# Altium footprint library 2.4.PcbLib: 19 footprints (part 1 of 2)
Each footprint in its own frame and in the unit in brackets; x right, y up, seen from the top. Pads: shape width x height; smd on the part's side, far side on the other; paste and mask are expansions set on the pad; w line width, h text height; cw(c..) or ccw(c..) is an arc to the next point about the centre after c.
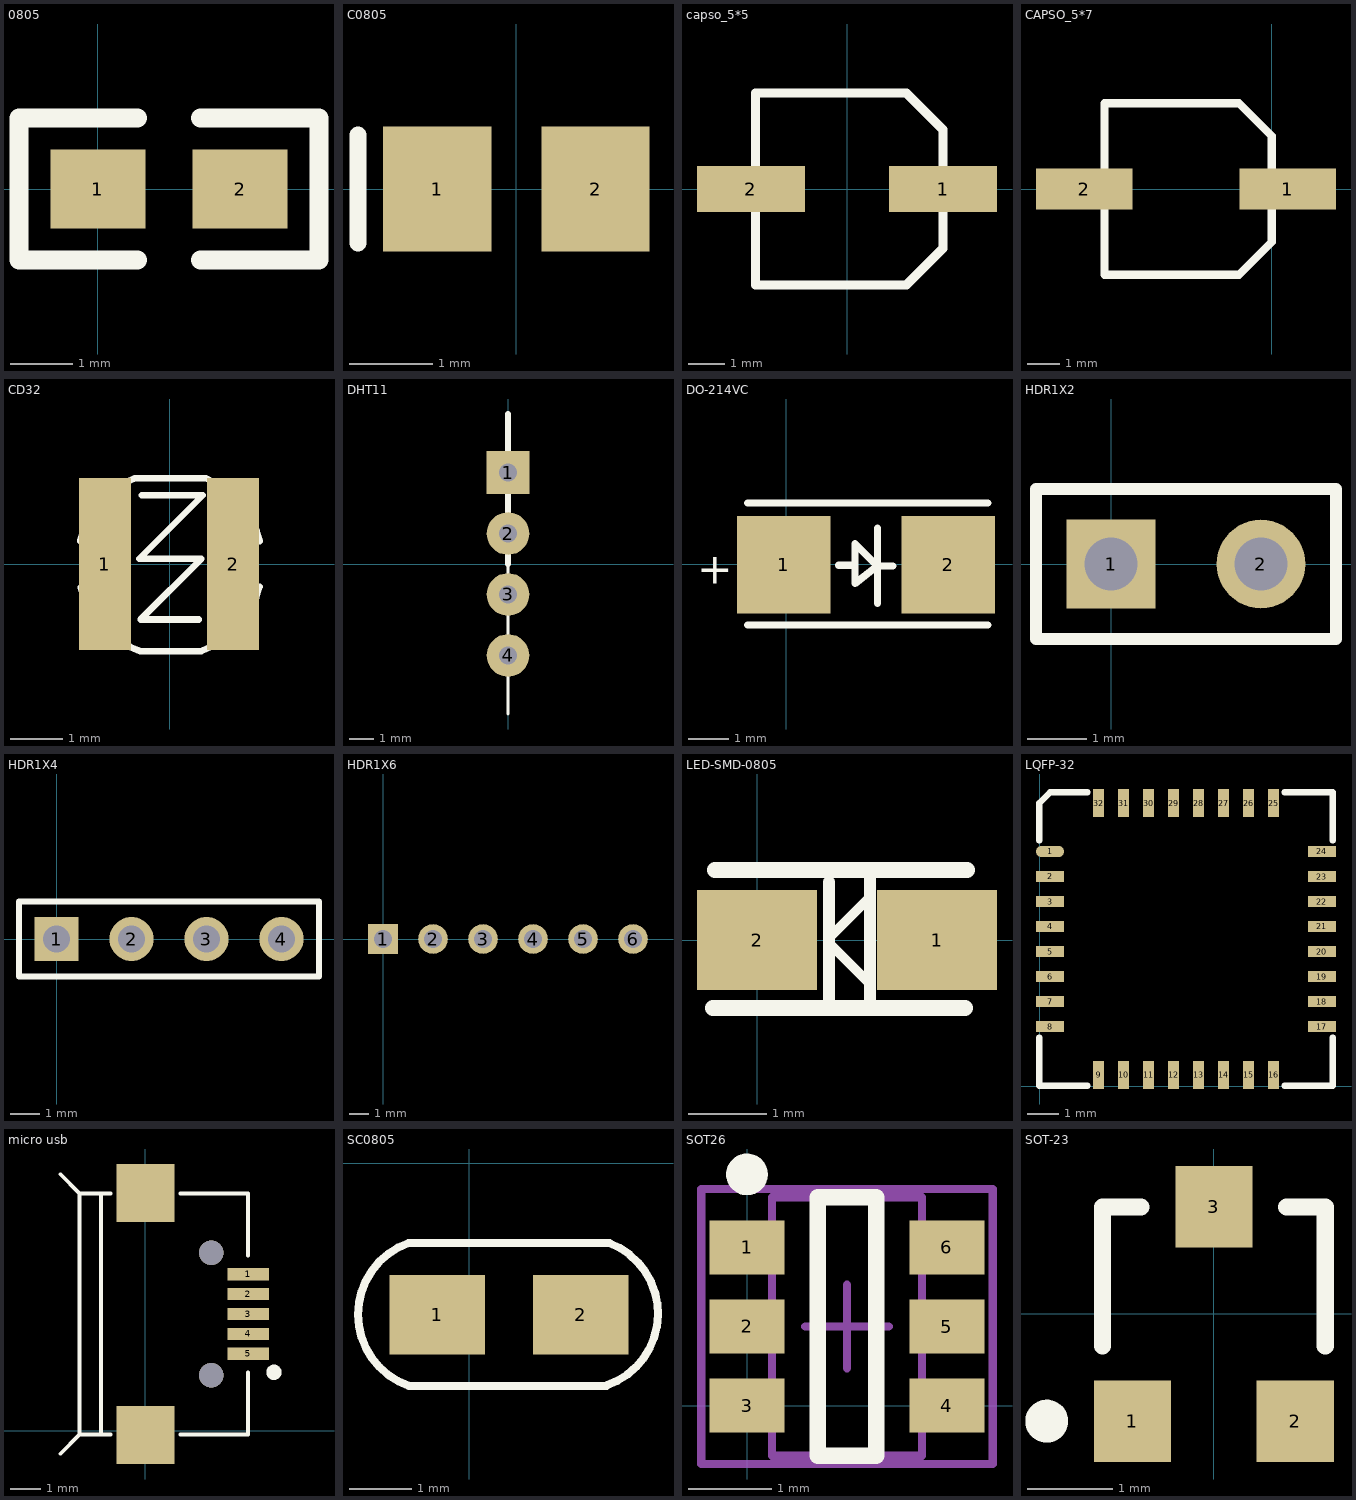
[diagram p0: the footprints below, top view; thin cyan lines are the x and y axes]

## 0805 [mil]
height 501.97
pads (2):
  rect 60x50 smd: 1(0,0) 2(90,0)
Top Overlay:
  lines w12: 25,-45 -50,-45 -50,45 25,45 ; 65,-45 140,-45 140,45 65,45

## C0805 [mm] "Chip Capacitor; Body 2.0 x 1.2 mm (LxW typ)"
height 1.1
pads (2):
  rect 1.3x1.5 smd: 1(-0.95,0) 2(0.95,0)
Top Overlay:
  lines w0.2: -1.9,-0.65 -1.9,0.65

## capso_5*5 [mm]
pads (2):
  rect 3x1.274 smd: 1(2.667,0) 2(-2.667,0)
Top Overlay:
  lines w0.254: -2.54,-2.667 1.651,-2.667 2.667,-1.651 2.667,1.651 1.651,2.667 -2.54,2.667 -2.54,-2.667
3D body: height 5.41, standoff 0, extent -2.874,-2.566 3.026,2.734

## CAPSO_5*7 [mm]
pads (2):
  rect 3x1.274 smd: 1(0.5,0) 2(-5.834,0)
Top Overlay:
  lines w0.254: -5.207,-2.667 -5.207,2.667 -1.016,2.667 0,1.651 0,-1.651 -1.016,-2.667 -5.207,-2.667
3D body: height 5.41, standoff 0, extent -5.541,-2.667 0.359,2.633

## CD32 [mm]
pads (2):
  rect 1x3.3 smd: 1(-1.245,0) 2(1.219,0)
Top Overlay:
  lines w0.127: -1.72,0.438 cw(c-1.727,0) -1.646,-0.431 ; -1.72,0.451 cw(c0,0) -0.66,1.651 0.686,1.651 cw(c0,0) 1.732,0.442 ; -1.708,-0.447 ccw(c0,0) -0.558,-1.675 ; -0.559,-1.676 0.609,-1.676 ; -0.533,1.321 0.635,1.321 -0.584,0.102 0.61,0.102 -0.559,-1.067 0.559,-1.067 ; 0.609,-1.674 ccw(c0,0) 1.726,-0.44 cw(c1.775,0) 1.726,0.44

## DHT11 [mil]
pads (4):
  rect 70x70 hole 30: 1(0,150)
  round 70 hole 30: 2(0,50) 3(0,-50) 4(0,-150)
Top Overlay:
  lines w5: 0,-246.06 0,0
  lines w10: 0,0 0,246.06

## DO-214VC [mm] "DO-214VC -SS14; Body 5.1 x 2.7mm (LxW typ)"
height 12.75
pads (2):
  rect 2.3x2.4 smd: 1(-0.054,-0.023) 2(3.996,-0.023)
Top Overlay:
  lines w0.178: -0.949,-1.499 4.971,-1.499 ; -0.949,1.501 4.971,1.501 ; 1.3,-0.029 1.7,-0.029 ; 2.25,-0.969 2.25,-0.049 ; 2.25,0.881 2.25,-0.049 ; 2.63,-0.049 2.25,-0.049 ; 2.25,-0.049 1.7,0.501 1.7,-0.479 2.25,-0.049
  text "+" at -2.192,-0.484 h0.76

## HDR1X2 [mm] "Connector; Header; 2 Position"
height 1.75
pads (2):
  rect 1.5x1.5 hole 0.9: 1(0,0)
  round 1.5 hole 0.9: 2(2.54,0)
Top Overlay:
  lines w0.2: -1.27,-1.27 -1.27,1.27 3.81,1.27 3.81,-1.27 -1.27,-1.27

## HDR1X4 [mm] "Connector; Header; 4 Position"
pads (4):
  rect 1.5x1.5 hole 0.9: 1(0,0)
  round 1.5 hole 0.9: 2(2.54,0) 3(5.08,0) 4(7.62,0)
Top Overlay:
  lines w0.2: -1.27,-1.27 -1.27,1.27 8.89,1.27 8.89,-1.27 -1.27,-1.27

## HDR1X6 [mm] "Connector; Header; 6 Position"
height 1.75
pads (6):
  rect 1.5x1.5 hole 0.9: 1(0,0)
  round 1.5 hole 0.9: 2(2.54,0) 3(5.08,0) 4(7.62,0) 5(10.16,0) 6(12.7,0)
Bottom Overlay:
  lines w0.2: -1.27,-1.27 -1.27,1.27 13.97,1.27 13.97,-1.27 -1.27,-1.27

## LED-SMD-0805 [mil]
height 68.9
pads (2):
  rect 60x50 smd: 1(90,0) 2(0,0)
Top Overlay:
  lines w5: 56.5,-22 36,-1.5 36,1 56.5,21.5 56.5,30.37 56.5,23.5
  lines w6: 36,-34 36,28.99 ; 56.5,-32.62 56.5,30.37
  lines w7.87: -21.98,-34 104,-34 ; -20.98,35 105,35

## LQFP-32 [mm]
height 1.75
pads (32):
  oval 0.9x0.35 smd: 1(0.33,7.518)
  rect 0.9x0.35 smd: 2(0.33,6.718) 3(0.33,5.918) 4(0.33,5.118) 5(0.33,4.318) 6(0.33,3.518) 7(0.33,2.718) 8(0.33,1.918) 17(9.03,1.918) 18(9.03,2.718) 19(9.03,3.518) 20(9.03,4.318) 21(9.03,5.118) 22(9.03,5.918) 23(9.03,6.718) 24(9.03,7.518)
  rect 0.35x0.9 smd: 9(1.88,0.368) 10(2.68,0.368) 11(3.48,0.368) 12(4.28,0.368) 13(5.08,0.368) 14(5.88,0.368) 15(6.68,0.368) 16(7.48,0.368) 25(7.48,9.068) 26(6.68,9.068) 27(5.88,9.068) 28(5.08,9.068) 29(4.28,9.068) 30(3.48,9.068) 31(2.68,9.068) 32(1.88,9.068)
Top Overlay:
  lines w0.2: -0.02,1.568 -0.02,0.018 1.53,0.018 ; -0.02,7.868 -0.02,9.068 0.33,9.418 1.53,9.418 ; 7.83,0.018 9.38,0.018 9.38,1.568 ; 7.83,9.418 9.38,9.418 9.38,7.868

## micro usb [mm]
height 1.75
pads (7):
  rect 1.35x0.4 smd: 1(3.355,5.11) 2(3.355,4.46) 3(3.355,3.81) 4(3.355,3.16) 5(3.355,2.51)
  rect 1.9x1.9 smd: ""(-0.003,-0.14) ""(-0.003,7.76)
via 2.147,1.81 diameter 0.8 hole 0.8
via 2.147,5.81 diameter 0.8 hole 0.8
Top Overlay:
  circle w0.25: c4.195,1.905 r0.125
  lines w0.127: -2.783,-0.757 -2.153,-0.127 -1.137,-0.127 ; -2.783,8.377 -2.153,7.747 -1.137,7.747 ; -2.153,-0.09 -2.153,7.71 ; -1.453,-0.053 -1.453,7.747 ; 1.149,-0.127 3.355,-0.127 ; 1.149,7.747 3.355,7.747 ; 3.355,-0.09 3.355,1.905 ; 3.355,5.715 3.355,7.71

## SC0805 [mil]
pads (2):
  rect 60x50 smd: 1(-20,-95) 2(70,-95)
Top Overlay:
  lines w5: 86.25,-139.66 -37.88,-139.66 cw(c-22.23,-94.81) -38,-50 88,-50 cw(c71,-94.36) 86.25,-139.34
3D body: height 36.61, standoff -0.39, extent -34.06,-123 84.06,-67.88

## SOT26 [mm]
height 1.75
pads (6):
  rect 0.9x0.65 smd: 1(0,1.9) 2(0,0.95) 3(0,0) 4(2.4,0) 5(2.4,0.95) 6(2.4,1.9)
Top Overlay:
  circle w0.25: c0,2.775 r0.125
  lines w0.2: 0.85,-0.6 1.55,-0.6 1.55,2.5 0.85,2.5 0.85,-0.6
Mechanical 13:
  lines w0.1: 0.3,-0.6 0.3,2.5 2.1,2.5 2.1,-0.6 0.3,-0.6
Mechanical 15:
  lines w0.1: 0.7,0.95 1.7,0.95 ; 1.2,0.45 1.2,1.45 ; -0.55,-0.7 -0.55,2.6 2.95,2.6 2.95,-0.7 -0.55,-0.7
3D body: height 1.45, standoff 0, extent 0.3,-0.6 2.1,2.5

## SOT-23 [mm] "SOT-23; 3 Leads; Body 3.0 x 2.6 mm, inc. leads (LxW max)"
height 1.1
pads (3):
  rect 0.9x0.95 smd: 1(-0.95,-1.25) 2(0.95,-1.25) 3(0,1.25)
Top Overlay:
  circle w0.25: c-1.95,-1.25 r0.125
  lines w0.2: -1.3,-0.375 -1.3,1.25 -0.85,1.25 ; 0.85,1.25 1.3,1.25 1.3,-0.375